# Altium footprint library CANcard.PcbLib: 16 footprints
Each footprint in its own frame and in the unit in brackets; x right, y up, seen from the top. Pads: shape width x height; smd on the part's side, far side on the other; paste and mask are expansions set on the pad; w line width, h text height; cw(c..) or ccw(c..) is an arc to the next point about the centre after c.
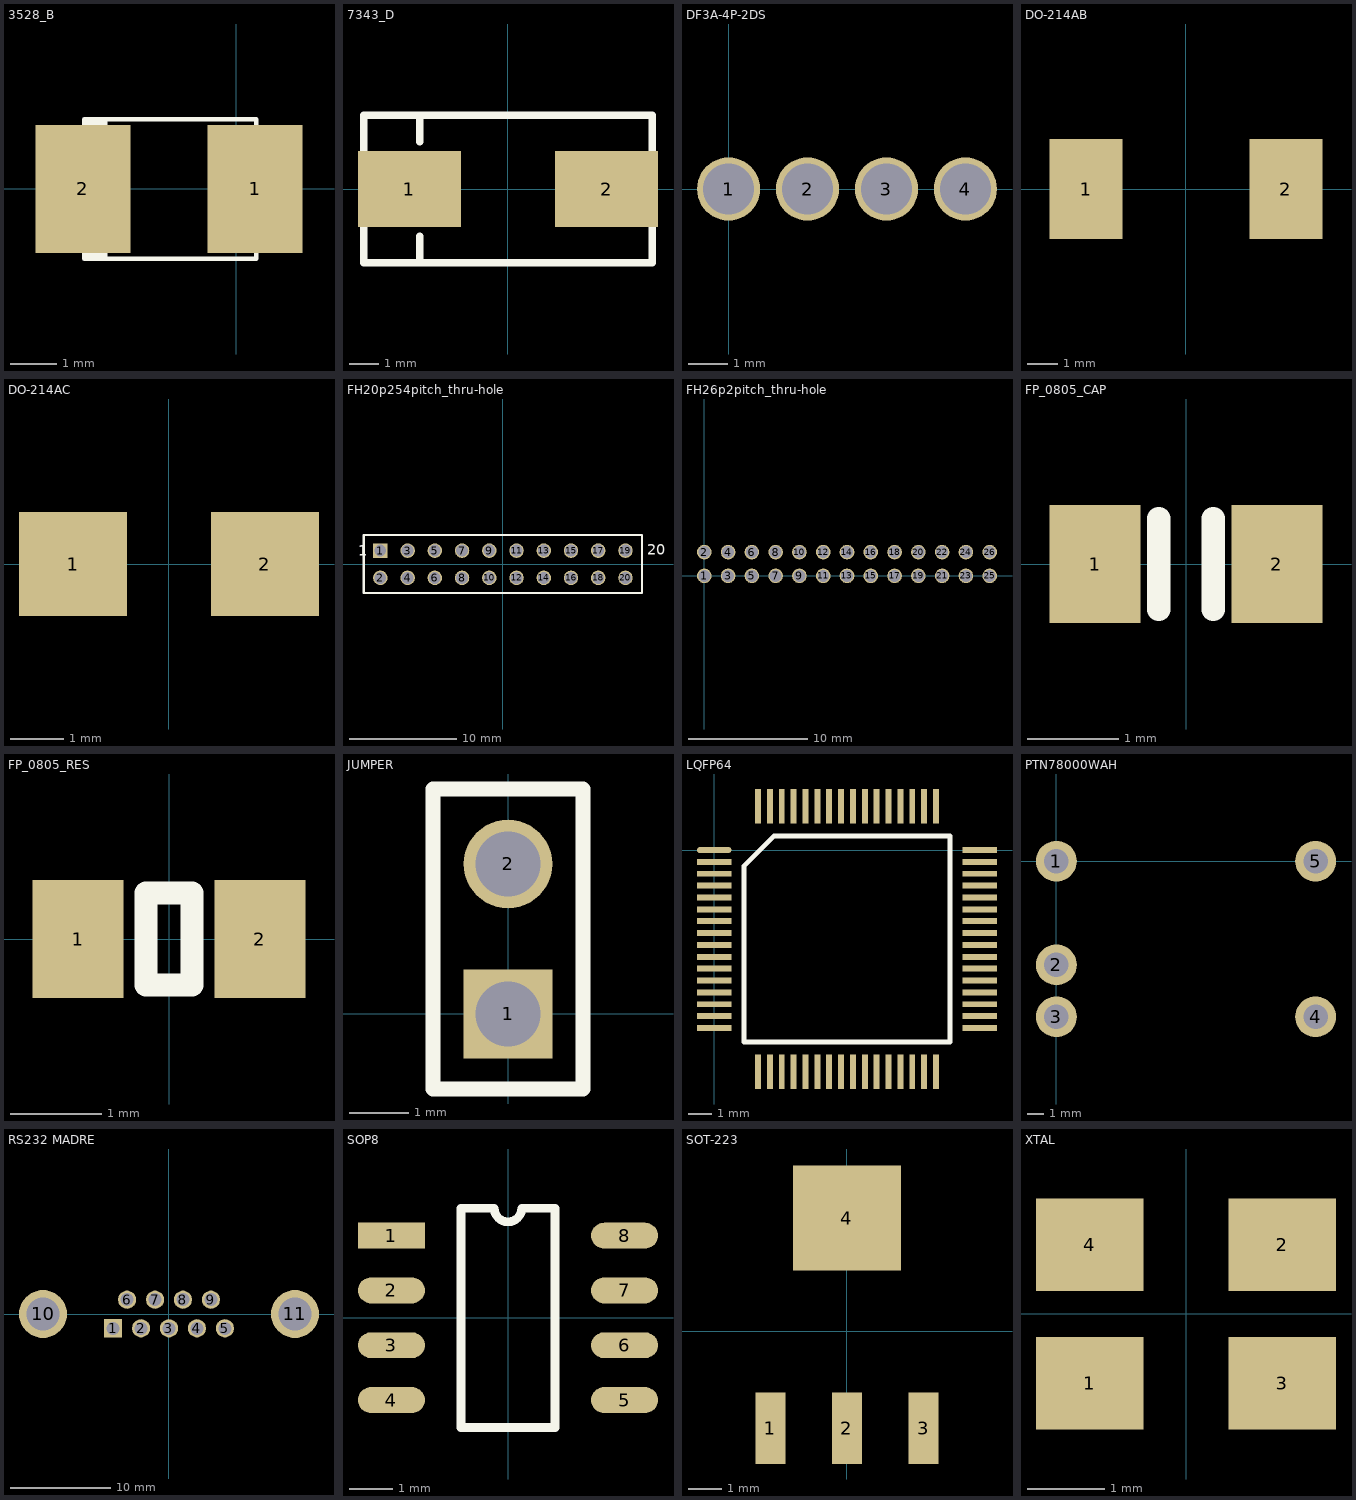
[diagram p0: the footprints below, top view; thin cyan lines are the x and y axes]

## 3528_B [mm] "3528 TANTaL SMD \"B\"-Package"
height 1.9
pads (2):
  rect 2.05x2.75 smd: 1(0.4,0) 2(-3.3,0)
Top Overlay:
  rectangle: -3.275,-1.5 -2.777,1.5
  lines w0.1: -3.275,-1.5 -3.275,1.5 0.425,1.5 0.425,-1.5 -3.275,-1.5
3D body: height 2.62, standoff 0.47, extent -3.942,-1.498 1.057,1.499

## 7343_D [mm]
pads (2):
  rect 3.5x2.6 smd: 1(-3.35,0) 2(3.35,0)
Top Overlay:
  lines w0.254: -3,-2.5 -3,-1.6 ; -3,1.6 -3,2.5 ; -4.9,-2.5 -4.9,2.5 4.9,2.5 4.9,-2.5 -4.9,-2.5
3D body: height 3.1, standoff -0.04, extent -4.494,-2.305 4.502,2.305

## DF3A-4P-2DS [mm] "Based on Hirose DF3A-4P-2DS model."
height 5
pads (4):
  round 1.6 hole 1.3: 1(0,0) 2(2,0) 3(4,0) 4(6,0)
3D body: height 5, standoff -2.9, extent -2.126,-5.759 7.874,1.441

## DO-214AB [mm]
height 2.6
pads (2):
  rect 2.4x3.3 smd: 1(-3.3,0) 2(3.3,0)
3D body: height 2.4, standoff -0.05, extent -3.9,-2.95 3.9,2.95

## DO-214AC [mm] "DO-214AC(SMA)"
height 0.8
pads (2):
  rect 2.04x1.96 smd: 1(-1.81,0) 2(1.81,0)
3D body: height 2.15, standoff -0.05, extent -2.5,-1.35 2.5,1.35

## FH20p254pitch_thru-hole [mm] "Connector; Header; 10x2 Position, 2.54mm pitch, thru-hole"
height 8.4
pads (20):
  rect 1.35x1.35 hole 1.1: 1(-11.43,1.27)
  round 1.35 hole 1.1: 2(-11.43,-1.27) 3(-8.89,1.27) 4(-8.89,-1.27) 5(-6.35,1.27) 6(-6.35,-1.27) 7(-3.81,1.27) 8(-3.81,-1.27) 9(-1.27,1.27) 10(-1.27,-1.27) 11(1.27,1.27) 12(1.27,-1.27) 13(3.81,1.27) 14(3.81,-1.27) 15(6.35,1.27) 16(6.35,-1.27) 17(8.89,1.27) 18(8.89,-1.27) 19(11.43,1.27) 20(11.43,-1.27)
Top Overlay:
  lines w0.2: -12.979,-2.67 -12.979,2.708 ; -12.979,2.718 12.954,2.718 ; -12.954,-2.668 12.954,-2.668 ; 12.979,-2.67 12.979,2.708
  text "1" at -13.513,0.813 h1
  text "20" at 13.462,0.889 h1
3D body: height 8.5, standoff -3.15, extent -12.825,-2.515 12.825,2.485

## FH26p2pitch_thru-hole [mm] "Extension Header; 13x2 Position, 2mm pitch, through-hole"
pads (26):
  round 1.23 hole 1: 1(0,0) 2(0,2) 3(2,0) 4(2,2) 5(4,0) 6(4,2) 7(6,0) 8(6,2) 9(8,0) 10(8,2) 11(10,0) 12(10,2) 13(12,0) 14(12,2) 15(14,0) 16(14,2) 17(16,0) 18(16,2) 19(18,0) 20(18,2) 21(20,0) 22(20,2) 23(22,0) 24(22,2) 25(24,0) 26(24,2)
3D body: height 4, standoff -2.8, extent -1.21,-1.245 25.29,3.255

## FP_0805_CAP [mm] "0805 capacitor YAGEO 0.85mm height"
height 0.86
pads (2):
  rect 1x1.3 smd: 1(-1,0) 2(1,0)
Top Overlay:
  lines w0.254: -0.3,-0.5 -0.3,0.5 ; 0.3,-0.5 0.3,0.5
3D body: height 0.85, standoff 0, extent -1,-0.635 -0.644,0.635
3D body: height 0.85, standoff 0, extent 0.676,-0.635 1.032,0.635
3D body: height 0.85, standoff 0, extent -0.644,-0.635 0.676,0.635

## FP_0805_RES [mm]
height 0.5
pads (2):
  rect 1x1.3 smd: 1(-1,0) 2(1,0)
Top Overlay:
  lines w0.254: -0.254,-0.508 -0.254,0.508 0.254,0.508 0.254,-0.508 -0.254,-0.508
3D body: height 0.5, standoff 0, extent -1,-0.635 -0.644,0.635
3D body: height 0.5, standoff 0, extent 0.676,-0.635 1.032,0.635
3D body: height 0.5, standoff 0, extent -0.644,-0.635 0.676,0.635

## JUMPER [mm] "2×1 tüskesor"
height 8.54
pads (2):
  rect 1.5x1.5 hole 1.1: 1(0,0)
  round 1.5 hole 1.1: 2(0,2.54)
Top Overlay:
  lines w0.254: -1.27,-1.27 1.27,-1.27 1.27,3.81 -1.27,3.81 -1.27,-1.27
3D body: height 8.54, standoff 2.54, extent -0.33,-0.33 0.33,0.33
3D body: height 8.54, standoff 2.54, extent -0.33,2.21 0.33,2.87
3D body: height 0, standoff -3, extent -0.33,2.21 0.33,2.87
3D body: height 0, standoff -3, extent -0.33,-0.33 0.33,0.33
3D body: height 2.54, standoff 0, extent -1.27,-1.27 1.27,3.81

## LQFP64 [mm] "TM4C123FH6PM package"
height 3.683
pads (64):
  oval 1.45x0.25 smd: 1(0,0)
  rect 1.45x0.25 smd: 2(0,-0.5) 3(0,-1) 4(0,-1.5) 5(0,-2) 6(0,-2.5) 7(0,-3) 8(0,-3.5) 9(0,-4) 10(0,-4.5) 11(0,-5) 12(0,-5.5) 13(0,-6) 14(0,-6.5) 15(0,-7) 16(0,-7.5) 33(11.2,-7.5) 34(11.2,-7) 35(11.2,-6.5) 36(11.2,-6) 37(11.2,-5.5) 38(11.2,-5) 39(11.2,-4.5) 40(11.2,-4) 41(11.2,-3.5) 42(11.2,-3) 43(11.2,-2.5) 44(11.2,-2) 45(11.2,-1.5) 46(11.2,-1) 47(11.2,-0.5) 48(11.2,0)
  rect 0.25x1.45 smd: 17(1.85,-9.35) 18(2.35,-9.35) 19(2.85,-9.35) 20(3.35,-9.35) 21(3.85,-9.35) 22(4.35,-9.35) 23(4.85,-9.35) 24(5.35,-9.35) 25(5.85,-9.35) 26(6.35,-9.35) 27(6.85,-9.35) 28(7.35,-9.35) 29(7.85,-9.35) 30(8.35,-9.35) 31(8.85,-9.35) 32(9.35,-9.35) 49(9.35,1.85) 50(8.85,1.85) 51(8.35,1.85) 52(7.85,1.85) 53(7.35,1.85) 54(6.85,1.85) 55(6.35,1.85) 56(5.85,1.85) 57(5.35,1.85) 58(4.85,1.85) 59(4.35,1.85) 60(3.85,1.85) 61(3.35,1.85) 62(2.85,1.85) 63(2.35,1.85) 64(1.85,1.85)
Top Overlay:
  lines w0.2: 1.26,-8.09 1.26,-0.67 2.52,0.59 9.94,0.59 9.94,-8.09 1.26,-8.09
3D body: height 1.5, standoff 0.02, extent -0.4,-9.75 11.6,2.25

## PTN78000WAH [mm]
pads (5):
  round 2.5 hole 1.5: 1(0,0) 2(0,-6.35) 3(0,-9.53) 4(15.88,-9.53) 5(15.88,0)
3D body: height 8.23, standoff -2.61, extent -1.586,-11.049 17.334,1.521

## RS232 MADRE [mm]
pads (11):
  rect 1.8x1.8 hole 1.3: 1(-5.54,-1.42)
  round 1.8 hole 1.3: 2(-2.77,-1.42) 3(0,-1.42) 4(2.77,-1.42) 5(5.54,-1.42) 6(-4.155,1.42) 7(-1.385,1.42) 8(1.385,1.42) 9(4.155,1.42)
  round 4.76 hole 3.26: 10(-12.495,0) 11(12.495,0)
3D body: height 12.57, standoff -4.3, extent -15.405,-3.048 15.405,15.552

## SOP8 [mm]
pads (8):
  rect 1.55x0.6 smd: 1(-2.7,1.905)
  oval 1.55x0.6 smd: 2(-2.7,0.635) 3(-2.7,-0.635) 4(-2.7,-1.905) 5(2.7,-1.905) 6(2.7,-0.635) 7(2.7,0.635) 8(2.7,1.905)
Top Overlay:
  lines w0.2: -1.09,-2.54 -1.09,2.54 -0.318,2.54 ccw(c0,2.54) 0.318,2.54 1.09,2.54 1.09,-2.54 -1.09,-2.54
3D body: height 1.6, standoff 0, extent -3.021,-2.51 3.021,2.51

## SOT-223 [mm]
pads (4):
  rect 0.9x2.15 smd: 1(-2.3,-2.9) 2(0,-2.9) 3(2.3,-2.9)
  rect 3.25x3.15 smd: 4(0,3.4)
3D body: height 1.65, standoff 0, extent -3.25,-3.543 3.25,3.543

## XTAL [mm] "16.000000MHz QUARZ SMD/NXK-32 (NSK) package"
height 1.4
pads (4):
  rect 1.4x1.2 smd: 1(-1.25,-0.9) 2(1.25,0.9) 3(1.25,-0.9) 4(-1.25,0.9)
3D body: height 0.77, standoff 0, extent -1.6,-1.25 1.6,1.25